# Altium footprint library Misc.SMD.PcbLib: 88 footprints (part 4 of 6)
Each footprint in its own frame and in the unit in brackets; x right, y up, seen from the top. Pads: shape width x height; smd on the part's side, far side on the other; paste and mask are expansions set on the pad; w line width, h text height; cw(c..) or ccw(c..) is an arc to the next point about the centre after c.
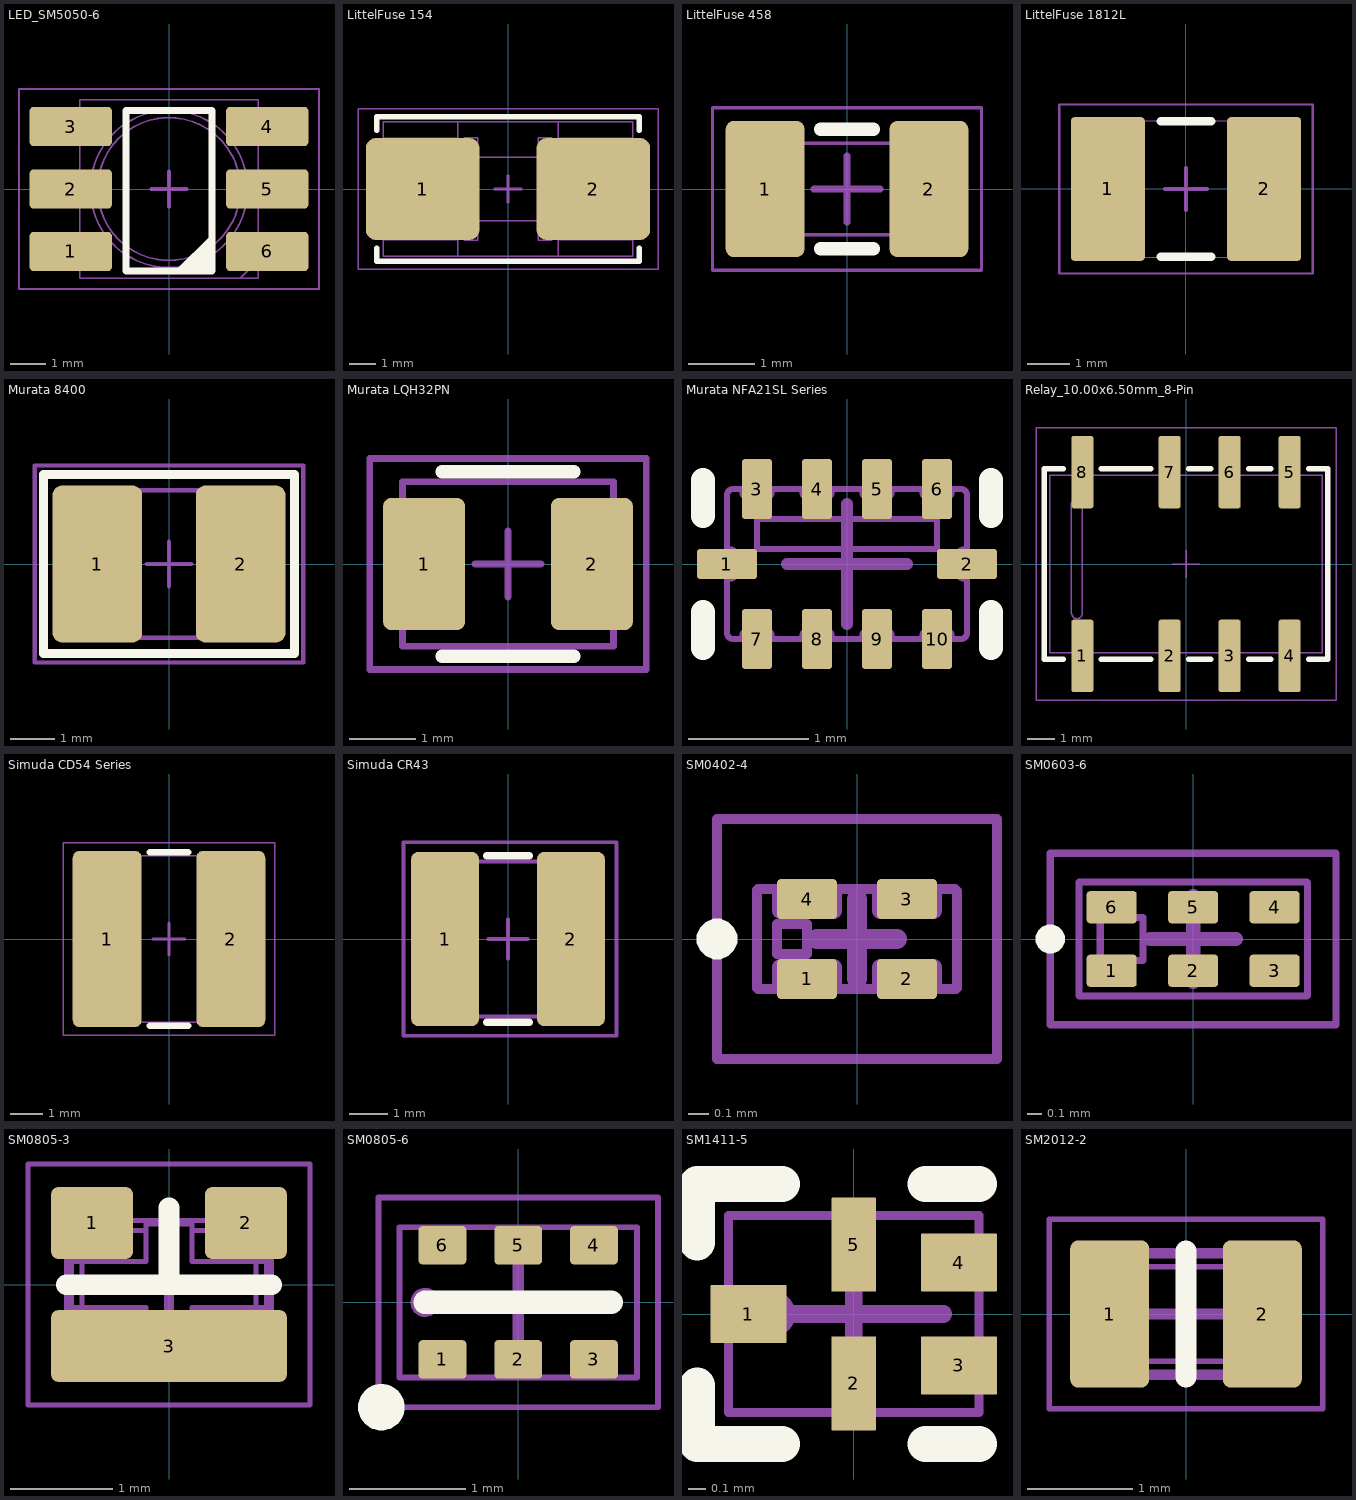
[diagram p3: the footprints below, top view; thin cyan lines are the x and y axes]

## LED_SM5050-6 [mm] "LED, 5.00x5.00mm Package, 6-Leads, 1.75mm Pitch"
height 1.9
pads (6):
  rrect20% 2.3x1.1 smd: 1(-2.75,-1.75) 2(-2.75,0) 3(-2.75,1.75) 4(2.75,1.75) 5(2.75,0) 6(2.75,-1.75)
Top Overlay:
  region: 1.2,-1.4 0.3,-2.3 1.2,-2.3
  lines w0.2: 0.3,-2.3 1.2,-1.4 ; -1.2,-2.3 1.2,-2.3 1.2,2.2 -1.2,2.2 -1.2,-2.3
Mechanical 1:
  circle w0.05: c0,0 r2
  circle w0.05: c0,0 r2.2
  lines w0.05: -2.5,-2.25 -2.75,-2.25 -2.75,-1.25 -2.5,-1.25 ; -2.5,-0.5 -2.75,-0.5 -2.75,0.5 -2.5,0.5 ; -2.5,1.25 -2.75,1.25 -2.75,2.25 -2.5,2.25 ; 2,-2.5 2.5,-2 ; 2.5,-2.25 2.75,-2.25 2.75,-1.25 2.5,-1.25 ; 2.5,-0.5 2.75,-0.5 2.75,0.5 2.5,0.5 ; 2.5,1.25 2.75,1.25 2.75,2.25 2.5,2.25 ; -2.5,-2.5 2.5,-2.5 2.5,2.5 -2.5,2.5 -2.5,-2.5
Mechanical 15:
  lines w0.05: -4.2,-2.8 4.2,-2.8 4.2,2.8 -4.2,2.8 -4.2,-2.8
  lines w0.1: -0.5,0 0.5,0 ; 0,-0.5 0,0.5
3D body "LED_SM5050-6.STEP": height 1.9, standoff 0, extent -2.75,-2.5 2.75,2.5

## LittelFuse 154 [mil] "Littelfuse OMNI-BLOCK 154-Series Fuse, 9.73x5.03mm Package"
height 150
pads (2):
  rrect20% 167x150 smd: 1(-125.46,0) 2(125.46,0)
Top Overlay:
  lines w7.87: -192.91,-86.61 -192.91,-106.3 192.91,-106.3 192.91,-86.61 ; -192.91,86.61 -192.91,106.29 192.91,106.29 192.91,86.61
Mechanical 1:
  drawing of 419 lines, arcs and shapes, not listed
Mechanical 15:
  lines w1.97: -220.47,-118.11 -220.47,118.11 220.47,118.11 220.47,-118.11 -220.47,-118.11
  lines w3.94: -19.68,0 19.68,0 ; 0,-19.68 0,19.68
3D body "LittelFuse_154-Series.STEP": height 150, standoff 0, extent -191.54,-99.02 191.54,99.02

## LittelFuse 458 [mm] "LittelFuse Nano2 458-Series Fuse"
height 1.575
pads (2):
  rrect20% 1.185x2.05 smd: 1(-1.232,0) 2(1.232,0)
Top Overlay:
  lines w0.2: -0.4,-0.9 0.4,-0.9 ; -0.4,0.9 0.4,0.9
Mechanical 1:
  lines w0.05: -0.775,-0.687 0.775,-0.687 ; -0.775,0.687 0.775,0.687 ; -1.587,-0.637 ccw(c-1.438,-0.637) -1.438,-0.787 -0.775,-0.787 -0.775,0.787 -1.438,0.787 ccw(c-1.438,0.637) -1.587,0.637 -1.587,-0.637 ; 0.775,-0.787 0.775,0.787 1.438,0.787 cw(c1.438,0.637) 1.587,0.637 1.587,-0.637 cw(c1.438,-0.637) 1.438,-0.787 0.775,-0.787
Mechanical 15:
  lines w0.05: -2.025,-1.225 -2.025,1.225 2.025,1.225 2.025,-1.225 -2.025,-1.225
  lines w0.1: -0.5,0 0.5,0 ; 0,-0.5 0,0.5
3D body "LittelFuse_Nano2_458-Series.STEP": height 1.57, standoff 0, extent -1.587,-0.787 1.587,0.787

## LittelFuse 1812L [mm] "LittleFuse 1812L Series"
height 2
pads (2):
  rrect10% 1.75x3.4 smd: 1(-1.85,0) 2(1.85,0)
Top Overlay:
  lines w0.2: -0.6,-1.6 0.6,-1.6 ; -0.6,1.6 0.6,1.6
Mechanical 1:
  lines w0.025: -1.525,-1.62 -1.525,1.62 ; 1.525,-1.62 1.525,1.62 ; -2.275,-1.62 -2.275,-0.4 ccw(c-2.275,0) -2.275,0.4 -2.275,1.62 2.275,1.62 2.275,0.4 ccw(c2.275,0) 2.275,-0.4 2.275,-1.62 -2.275,-1.62
Mechanical 15:
  lines w0.05: -3,-2 -3,2 3,2 3,-2 -3,-2
  lines w0.1: -0.5,0 0.5,0 ; 0,-0.5 0,0.5
3D body "LittelFuse_1812L.STEP": height 1.6, standoff 0, extent -2.275,-1.62 2.275,1.62

## Murata 8400 [mm] "Murata 8400 Series"
height 3
pads (2):
  rrect20% 2x3.5 smd: 1(-1.6,0) 2(1.6,0)
Top Overlay:
  lines w0.2: -2.8,-2 -2.8,2 2.8,2 2.8,-2 -2.8,-2
Mechanical 1:
  lines w0.1: -2.25,-1.65 2.25,-1.65 2.25,1.65 -2.25,1.65 -2.25,-1.65
Mechanical 15:
  lines w0.1: -0.5,0 0.5,0 ; 0,-0.5 0,0.5 ; -3,-2.2 -3,2.2 3,2.2 3,-2.2 -3,-2.2
3D body "L_Murata_8400.STEP": height 2.6, standoff 0, extent -2.25,-1.65 2.25,1.65

## Murata LQH32PN [mil]
pads (2):
  rrect20% 49x79 smd: 1(-50.09,0) 2(50.09,0)
Top Overlay:
  lines w7.87: -39.37,-55.12 39.37,-55.12 ; -39.37,55.12 39.37,55.12
Mechanical 1:
  lines w3.94: -62.99,-49.21 62.99,-49.21 62.99,49.21 -62.99,49.21 -62.99,-49.21
Mechanical 15:
  lines w3.94: -19.68,0 19.68,0 ; 0,-19.68 0,19.68 ; -82.68,-62.99 -82.68,62.99 82.68,62.99 82.68,-62.99 -82.68,-62.99
3D body "User Library-LQH32PN_sw.step": height 61.02, standoff 0, extent -62.99,-49.21 62.99,49.21

## Murata NFA21SL Series [mm] "Murata NFA21SL, 2.00x1.25mm Package, 10-Lead, 0.5mm Pitch"
height 0.85
pads (10):
  rrect20% 0.5x0.25 smd: 1(-1,0) 2(1,0)
  rrect20% 0.25x0.5 smd: 3(-0.75,0.625) 4(-0.25,0.625) 5(0.25,0.625) 6(0.75,0.625) 7(-0.75,-0.625) 8(-0.25,-0.625) 9(0.25,-0.625) 10(0.75,-0.625)
Top Overlay:
  lines w0.2: -1.2,-0.7 -1.2,-0.4 ; -1.2,0.4 -1.2,0.7 ; 1.2,-0.7 1.2,-0.4 ; 1.2,0.4 1.2,0.7
Mechanical 1:
  drawing of 9353 lines, arcs and shapes, not listed
Mechanical 15:
  lines w0.1: -0.5,0 0.5,0 ; 0,-0.5 0,0.5
3D body "Murata_NFA21SL.STEP": height 0.85, standoff 0, extent -1,-0.623 1,0.627

## Relay_10.00x6.50mm_8-Pin [mm] "Surface Mount Relay, 10.00x6.50mm, 8-Pin"
height 5.5
pads (8):
  rrect20% 0.8x2.66 smd: 1(-3.8,-3.37) 2(-0.6,-3.37) 3(1.6,-3.37) 4(3.8,-3.37) 5(3.8,3.37) 6(1.6,3.37) 7(-0.6,3.37) 8(-3.8,3.37)
Top Overlay:
  lines w0.2: -4.5,-3.5 -5.2,-3.5 -5.2,3.5 -4.5,3.5 ; -3.1,-3.5 -1.3,-3.5 ; -3.1,3.5 -1.3,3.5 ; 0.1,-3.5 0.9,-3.5 ; 0.1,3.5 0.9,3.5 ; 2.3,-3.5 3.1,-3.5 ; 2.3,3.5 3.1,3.5 ; 4.5,-3.5 5.2,-3.5 5.2,3.5 4.5,3.5
Mechanical 1:
  lines w0.05: -4.05,-3.25 -4.05,-3.9 -3.55,-3.9 -3.55,-3.25 ; -4.05,3.25 -4.05,3.9 -3.55,3.9 -3.55,3.25 ; -0.86,-3.25 -0.86,-3.9 -0.36,-3.9 -0.36,-3.25 ; -0.86,3.25 -0.86,3.9 -0.36,3.9 -0.36,3.25 ; 1.34,-3.25 1.34,-3.9 1.84,-3.9 1.84,-3.25 ; 1.34,3.25 1.34,3.9 1.84,3.9 1.84,3.25 ; 3.55,-3.25 3.55,-3.9 4.05,-3.9 4.05,-3.25 ; 3.55,3.25 3.55,3.9 4.05,3.9 4.05,3.25 ; -5,-3.25 5,-3.25 5,3.25 -5,3.25 -5,-3.25 ; -4.2,-1.8 ccw(c-4,-1.8) -3.8,-1.8 -3.8,2.2 ccw(c-4,2.2) -4.2,2.2 -4.2,-1.8
Mechanical 15:
  lines w0.05: -0.5,0 0.5,0 ; 0,-0.5 0,0.5 ; -5.5,-5 -5.5,5 5.5,5 5.5,-5 -5.5,-5
3D body "Relay_DPDT_Omron_G6K-2F-Y.step": height 5.58, standoff 0, extent -5,-3.9 5,3.9

## Simuda CD54 Series [mm] "Simuda CD54 Series Inductor, 5.80x5.20mm, 2-Leads"
height 4.5
pads (2):
  rrect20% 2.15x5.5 smd: 1(-1.925,0) 2(1.925,0)
Top Overlay:
  lines w0.2: -0.6,-2.7 0.6,-2.7 ; -0.6,2.7 0.6,2.7
Mechanical 1:
  lines w0.05: -2.857,-0.5 ccw(c0,0) -1.285,-2.6 1.285,-2.6 ccw(c0,0) 2.857,-0.5 2.357,-0.5 cw(c2.357,0) 2.357,0.5 2.857,0.5 ccw(c0,0) 1.285,2.6 -1.285,2.6 ccw(c0,0) -2.857,0.5 -2.357,0.5 cw(c-2.357,0) -2.357,-0.5 -2.857,-0.5
Mechanical 15:
  lines w0.05: -3.3,-3 -3.3,3 3.3,3 3.3,-3 -3.3,-3
  lines w0.1: -0.5,0 0.5,0 ; 0,-0.5 0,0.5
3D body "Simuda_CD54.STEP": height 4.5, standoff 0, extent -2.857,-2.6 2.857,2.6

## Simuda CR43 [mm]
pads (2):
  rrect20% 1.75x4.5 smd: 1(-1.625,0) 2(1.625,0)
Top Overlay:
  lines w0.2: -0.55,-2.15 0.55,-2.15 ; -0.55,2.15 0.55,2.15
Mechanical 1:
  lines w0.1: -2.25,-2 2.25,-2 2.25,2 -2.25,2 -2.25,-2
Mechanical 15:
  lines w0.1: -0.5,0 0.5,0 ; 0,-0.5 0,0.5 ; -2.7,-2.5 2.8,-2.5 2.8,2.5 -2.7,2.5 -2.7,-2.5
3D body "L_Simuda_CR43.STEP": height 3.2, standoff 0, extent -2.25,-2 2.25,2

## SM0402-4 [mm] "0402 Package, 4 Leads"
height 0.33
pads (4):
  rrect20% 0.3x0.2 smd: 1(-0.25,-0.2) 2(0.25,-0.2) 3(0.25,0.2) 4(-0.25,0.2)
Top Overlay:
  region: -0.7,-0.1 -0.72,-0.1 -0.757,-0.085 -0.785,-0.057 -0.8,-0.02 -0.8,0 -0.8,0.02 -0.785,0.057 -0.757,0.085 -0.72,0.1 -0.7,0.1 -0.68,0.1 -0.643,0.085 -0.615,0.057 -0.6,0.02 -0.6,0 -0.6,-0.02 -0.615,-0.057 -0.643,-0.085 -0.68,-0.1
Mechanical 1:
  drawing of 4199 lines, arcs and shapes, not listed
Mechanical 15:
  lines w0.05: -0.7,-0.6 0.7,-0.6 0.7,0.6 -0.7,0.6 -0.7,-0.6
  lines w0.1: -0.2,0 0.2,0 ; 0,-0.2 0,0.2
3D body "SM0402-4.STEP": height 0.33, standoff 0, extent -0.5,-0.25 0.5,0.25

## SM0603-6 [mm] "0603 Package, 6-Leads"
height 0.6
pads (6):
  rrect20% 0.35x0.225 smd: 1(-0.57,-0.223) 2(0,-0.223) 3(0.57,-0.223) 4(0.57,0.223) 5(0,0.223) 6(-0.57,0.223)
Top Overlay:
  region: -1,-0.1 -1.02,-0.1 -1.057,-0.085 -1.085,-0.057 -1.1,-0.02 -1.1,0 -1.1,0.02 -1.085,0.057 -1.057,0.085 -1.02,0.1 -1,0.1 -0.98,0.1 -0.943,0.085 -0.915,0.057 -0.9,0.02 -0.9,0 -0.9,-0.02 -0.915,-0.057 -0.943,-0.085 -0.98,-0.1
Mechanical 1:
  lines w0.05: -0.8,-0.39 ccw(c-0.79,-0.39) -0.79,-0.4 0.79,-0.4 ccw(c0.79,-0.39) 0.8,-0.39 0.8,0.39 ccw(c0.79,0.39) 0.79,0.4 -0.79,0.4 ccw(c-0.79,0.39) -0.8,0.39 -0.8,-0.39 ; -0.65,-0.15 -0.65,0.15 -0.35,0.15 -0.35,-0.15 -0.65,-0.15
Mechanical 15:
  lines w0.05: -1,-0.6 1,-0.6 1,0.6 -1,0.6 -1,-0.6
  lines w0.1: -0.3,0 0.3,0 ; 0,-0.3 0,0.3
3D body "SM0603-6.STEP": height 0.6, standoff 0, extent -0.8,-0.4 0.8,0.4

## SM0805-3 [mm] "0805 Package, 3-Leads"
height 0.4
pads (3):
  rrect20% 0.8x0.7 smd: 1(-0.75,0.6) 2(0.75,0.6)
  rrect20% 2.3x0.7 smd: 3(0,-0.6)
Top Overlay:
  lines w0.2: -1,0 1,0 ; 0,0 0,0.75
Mechanical 1:
  lines w0.05: -1,-0.55 -0.95,-0.55 -0.95,0.325 -1,0.325 ; -0.95,-0.225 -0.225,-0.225 -0.225,-0.33 0.225,-0.33 0.225,-0.225 0.95,-0.225 ; -0.95,0.225 -0.225,0.225 -0.225,0.59 0.225,0.59 0.225,0.225 0.95,0.225 ; -0.85,-0.225 -0.85,0.225 ; -0.5,0.625 -0.5,0.525 -0.225,0.525 ; 0.225,0.525 0.5,0.525 0.5,0.625 ; 0.85,-0.225 0.85,0.225 ; 1,-0.55 0.95,-0.55 0.95,0.325 1,0.325 ; -1,-0.625 1,-0.625 1,0.625 -1,0.625 -1,-0.625
Mechanical 15:
  lines w0.05: -1.375,-1.175 -1.375,1.175 1.375,1.175 1.375,-1.175 -1.375,-1.175
  lines w0.1: -0.5,0 0.5,0 ; 0,-0.5 0,0.5
3D body "PAT1220.STEP": height 0.5, standoff 0, extent -1,-0.625 1,0.625

## SM0805-6 [mm] "0805, 6-Leads , Pitch 0.65mm"
height 0.7
pads (7):
  rrect20% 0.41x0.33 smd: 1(-0.65,-0.49) 2(0,-0.49) 3(0.65,-0.49) 4(0.65,0.49) 5(0,0.49) 6(-0.65,0.49)
  round 0.4 on Top Overlay: ""(-1.175,-0.9)
Top Overlay:
  lines w0.2: -0.8,0 0.8,0
Mechanical 1:
  circle w0.05: c-0.8,0 r0.1
  lines w0.05: -1.02,-0.645 -1.02,0.645 1.02,0.645 1.02,-0.645 -1.02,-0.645
Mechanical 15:
  lines w0.05: -1.2,-0.9 -1.2,0.9 1.2,0.9 1.2,-0.9 -1.2,-0.9
  lines w0.1: -0.5,0 0.5,0 ; 0,-0.5 0,0.5
3D body "Anaren_DC-Series.STEP": height 0.55, standoff 0, extent -1.02,-0.645 1.02,0.645

## SM1411-5 [mm] "SM1411-5 Package, 1.40x1.10mm, 5-Lead"
height 0.6
pads (5):
  rrect5% 0.425x0.325 smd: 1(-0.587,0) 3(0.587,-0.288) 4(0.587,0.288)
  rrect5% 0.25x0.525 smd: 2(0,-0.388) 5(0,0.387)
Top Overlay:
  lines w0.2: -0.875,-0.4 -0.875,-0.725 -0.4,-0.725 ; -0.875,0.4 -0.875,0.725 -0.4,0.725 ; 0.4,-0.725 0.7,-0.725 ; 0.4,0.725 0.7,0.725
Mechanical 1:
  lines w0.05: -0.7,-0.55 0.7,-0.55 0.7,0.55 -0.7,0.55 -0.7,-0.55 ; -0.549,-0.011 ccw(c-0.451,0) -0.548,-0.019 ccw(c-0.45,0) -0.539,-0.047 ccw(c-0.45,0) -0.535,-0.053 ccw(c-0.45,0) -0.516,-0.075 ccw(c-0.45,0) -0.51,-0.08 ccw(c-0.45,0) -0.484,-0.094 ccw(c-0.45,-0.001) -0.477,-0.096 ccw(c-0.45,0) -0.448,-0.1 ccw(c-0.45,-0.001) -0.441,-0.1 ccw(c-0.45,0) -0.412,-0.093 ccw(c-0.45,-0.001) -0.405,-0.089 ccw(c-0.45,0) -0.382,-0.073 ccw(c-0.45,0) -0.376,-0.067 ccw(c-0.45,0) -0.36,-0.043 ccw(c-0.449,0) -0.357,-0.036 ccw(c-0.45,0) -0.35,-0.008 ccw(c-0.449,0) -0.35,0 ccw(c-0.45,0) -0.355,0.03 ccw(c-0.449,0) -0.357,0.036 ccw(c-0.45,0) -0.371,0.062 ccw(c-0.45,0) -0.376,0.068 ccw(c-0.45,0) -0.399,0.086 ccw(c-0.45,0.001) -0.406,0.09 ccw(c-0.45,0) -0.434,0.099 ccw(c-0.45,0.001) -0.441,0.1 ccw(c-0.45,0) -0.471,0.098 ccw(c-0.45,0.001) -0.477,0.096 ccw(c-0.45,0) -0.505,0.084 ccw(c-0.45,0) -0.51,0.08 ccw(c-0.45,0) -0.531,0.059 ccw(c-0.45,0) -0.535,0.053 ccw(c-0.45,0) -0.547,0.025 ccw(c-0.451,0) -0.548,0.018 ccw(c-0.45,0) -0.549,-0.011
Mechanical 15:
  lines w0.1: -0.5,0 0.5,0 ; 0,-0.5 0,0.5
3D body "SM1411-5.STEP": height 0.6, standoff 0, extent -0.7,-0.55 0.7,0.55

## SM2012-2 [mm] "SMD Crystal, 2.0x1.2mm Package, 2 Leads"
height 0.6
pads (2):
  rrect20% 0.75x1.4 smd: 1(-0.725,0) 2(0.725,0)
Top Overlay:
  lines w0.2: 0,-0.6 0,0.6
Mechanical 1:
  lines w0.05: -1,-0.5 cw(c-1,-0.6) -0.9,-0.6 0.9,-0.6 cw(c1,-0.6) 1,-0.5 1,0.5 cw(c1,0.6) 0.9,0.6 -0.9,0.6 cw(c-1,0.6) -1,0.5 -1,-0.5 ; -0.95,-0.35 ccw(c-0.75,-0.35) -0.75,-0.55 0.75,-0.55 ccw(c0.75,-0.35) 0.95,-0.35 0.95,0.35 ccw(c0.75,0.35) 0.75,0.55 -0.75,0.55 ccw(c-0.75,0.35) -0.95,0.35 -0.95,-0.35 ; -0.85,-0.35 ccw(c-0.75,-0.35) -0.75,-0.45 0.75,-0.45 ccw(c0.75,-0.35) 0.85,-0.35 0.85,0.35 ccw(c0.75,0.35) 0.75,0.45 -0.75,0.45 ccw(c-0.75,0.35) -0.85,0.35 -0.85,-0.35
Mechanical 15:
  lines w0.05: -1.3,-0.9 -1.3,0.9 1.3,0.9 1.3,-0.9 -1.3,-0.9
  lines w0.1: -0.5,0 0.5,0 ; 0,-0.5 0,0.5
3D body "Abracon_ABS06.STEP": height 0.6, standoff 0, extent -1,-0.6 1,0.6